# EAGLE library part M5STACK-ATOM-PROTO (library m5stack-atom-proto-v3)
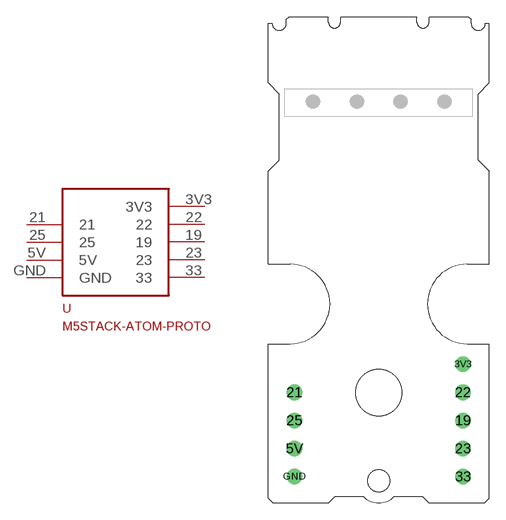
[diagram p0: symbol with the pads of M5STACK-ATOM-PROTO; footprint M5STACK-ATOM-PROTO]

Designator prefix -

## M5STACK-ATOM-PROTO  [M5STACK-ATOM-PROTO]
3V3  3V3
5V  5V
19  19
21  21
22  22
23  23
25  25
33  33
GND  GND

## Footprint M5STACK-ATOM-PROTO (pad centres in mm)
drill 0.9: 3V3 17.621,12.539; 5V 2.381,4.919; 19 17.621,7.459; 21 2.381,9.999; 22 17.621,9.999; 23 17.621,4.919; 25 2.381,7.459; 33 17.621,2.379; GND 2.381,2.379
hole 4.2 at 10.001,9.999
hole 2 at 10.001,2